# Altium schematic symbol library 5016.Schlib: 1 symbol
Pins are listed as number, name and electrical type; pins without a type are passive.

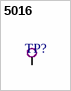
[diagram p0: symbol 5016]

## 5016
designator TP?  (value not drawn)
pins: 1 TP